# EAGLE library part EDSTLZ-7 (library con-ost)
ON-SHORE
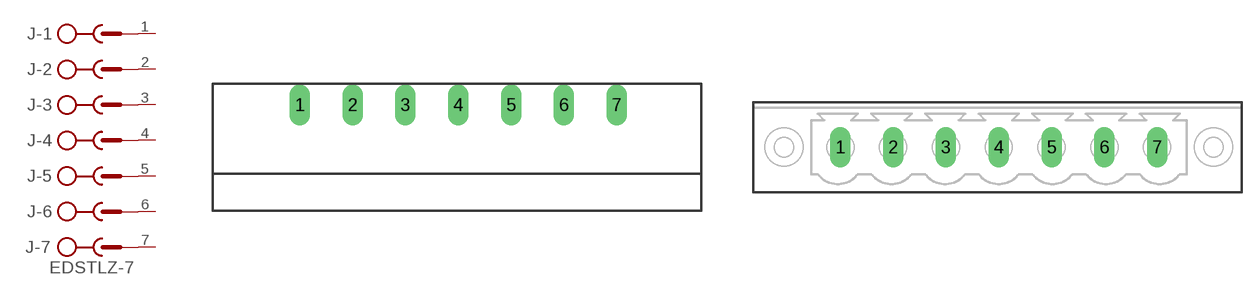
[diagram p1: symbol with the pads of 951-7; footprints 951-7, 956-7]

Designator prefix J; gates -1=SK -2=SK -3=SK -4=SK -5=SK -6=SK -7=SKV

## EDSTLZ-7-951  [951-7]
1  -1:SK  pas
2  -2:SK  pas
3  -3:SK  pas
4  -4:SK  pas
5  -5:SK  pas
6  -6:SK  pas
7  -7:SK  pas

## EDSTLZ-7-957  [956-7]
Pads as for 951-7

## EDSTLZ-7-1555  [1555-7]
Pads as for 951-7

## Footprint 951-7 (pad centres in mm)
Connector Right Angle pitch 0.2" (5 mm)
drill 1.27 pad 1.93 long: 1 -15,0; 2 -10,0; 3 -5,0; 4 0,0; 5 5,0; 6 10,0; 7 15,0

## Footprint 956-7 (pad centres in mm)
Connector Vertical pitch 0.2" (5 mm)
drill 1.27 pad 1.93 long: 1 -15,0; 2 -10,0; 3 -5,0; 4 0,0; 5 5,0; 6 10,0; 7 15,0

## Footprint 1555-7 (pad centres in mm)
Connector Vertical pitch 0.15" (3.81 mm)
drill 1.27 pad 1.93 long: 1 -11.43,0; 2 -7.62,0; 3 -3.81,0; 4 0,0; 5 3.81,0; 6 7.62,0; 7 11.43,0